# EAGLE library part 1825289-5 (library Switches)
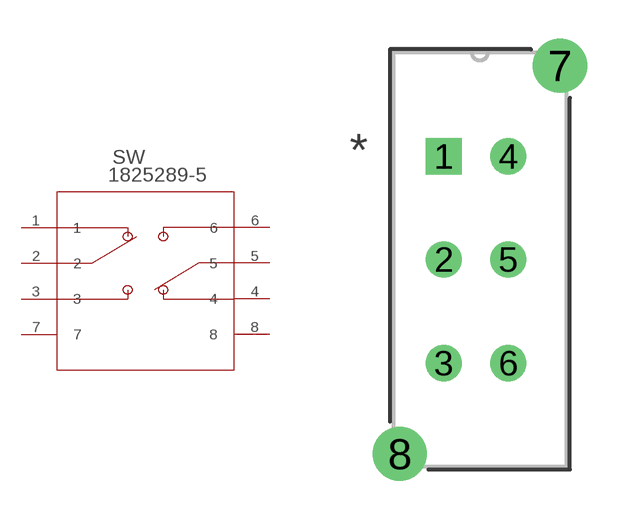
[diagram p21: symbol with the pads of SW6_MHS222; footprint SW6_MHS222]

Designator prefix SW

## 1825289-5 (BUILT_BY: EMA_UL_Team; CATEGORY: Slide Switches; CONFIGURATION__POLE-THROW_: Double Pole - Double Throw; CONTACT_CURRENT_RATING: 0.3; COPYRIGHT: Copyright (C) 2016 Accelerated Designs. All rights reserved; DESCRIPTION: MHS22304=DPDT SL SW VERT AG; MANUFACTURER_PART_NUMBER: 1825289-5; MAX_SWITCHING_CURRENT: -; MAX_SWITCHING_VOLTAGE_AC_: -; PART_STATUS: active; PRODUCT_TYPE: Switch; SERIES: Alcoswitch MHS; SWITCH_TYPE: Slide; TE_INTERNAL_NUMBER: 1825289-5; TE_PART_NUMBER: 1825289-5; VENDOR: TE Connectivity; VOLTAGE_RATING: -)  [SW6_MHS222]
1  1  pas
2  2  pas
3  3  pas
4  4  pas
5  5  pas
6  6  pas
7  7  pas
8  8  pas

## Footprint SW6_MHS222 (pad centres in mm)
drill 0.889 pad 1.397 square: 1 0,0
drill 0.889 pad 1.397: 2 0,-3.988; 3 0,-8.001; 4 2.489,0; 5 2.489,-3.988; 6 2.489,-8.001
drill 1.397 pad 1.905: 7 4.496,3.505; 8 -1.702,-11.506